# Altium schematic symbol library CAC LINH KIEN.SchLib: 6 symbols
Pins are listed as number, name and electrical type; pins without a type are passive.

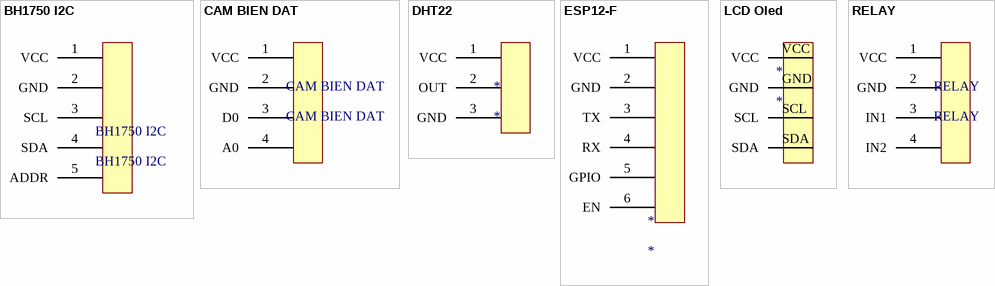
[diagram p0: symbols BH1750 I2C to RELAY]

## BH1750 I2C
designator BH1750 I2C
footprint HDR/Header/5
pins: 1 VCC, 2 GND, 3 SCL, 4 SDA, 5 ADDR

## CAM BIEN DAT
designator CAM BIEN DAT
footprint HDR/Header/4
pins: 1 VCC, 2 GND, 3 D0, 4 A0

## DHT22
designator *
footprint HDR/Header/3
pins: 1 VCC, 2 OUT, 3 GND

## ESP12-F
designator *
footprint HDR/Header/6
pins: 1 VCC, 2 GND, 3 TX, 4 RX, 5 GPIO, 6 EN

## LCD Oled
designator *
footprint HDR/Header/4
pins: GND, SCL, SDA, VCC

## RELAY
designator RELAY
footprint HDR/Header/4
pins: 1 VCC, 2 GND, 3 IN1, 4 IN2